# Altium schematic symbol library MGA68563.Schlib: 1 symbol
Pins are listed as number, name and electrical type; pins without a type are passive.

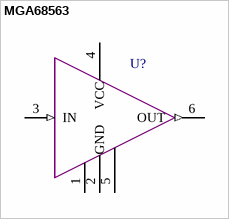
[diagram p0: symbol MGA68563]

## MGA68563
designator U?  (value not drawn)
pins: 1 GND (power), 2 GND (power), 3 IN (in), 4 VCC (power), 5 GND (power), 6 OUT (out)